# Altium schematic symbol library STEF05DPUR.Schlib: 1 symbol
Pins are listed as number, name and electrical type; pins without a type are passive.

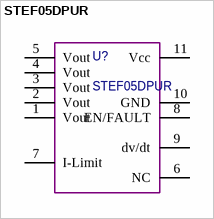
[diagram p0: symbol STEF05DPUR]

## STEF05DPUR
designator U?
pins: 1 Vout, 2 Vout, 3 Vout, 4 Vout, 5 Vout, 6 NC, 7 I-Limit, 8 EN/FAULT, 9 dv/dt, 10 GND, 11 Vcc